# EAGLE library part TEXAS_INSTRUMENTS-MOSFET-CSD19531Q5A (library Module_ICs)
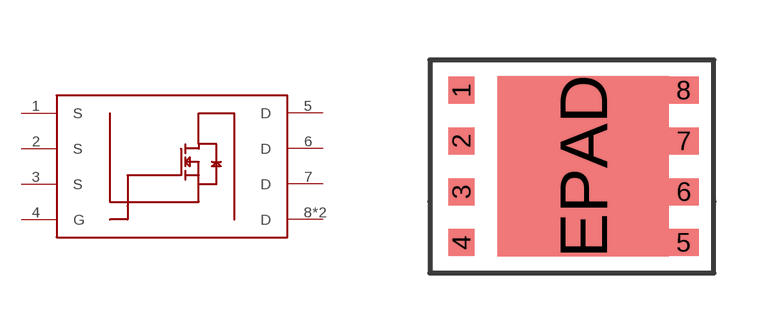
[diagram p44: symbol with the pads of TEXAS_INSTRUMENTS-MOSFET-CSD19531Q5A; footprint TEXAS_INSTRUMENTS-MOSFET-CSD19531Q5A]

Designator prefix U

## TEXAS_INSTRUMENTS-MOSFET-CSD19531Q5A  [TEXAS_INSTRUMENTS-MOSFET-CSD19531Q5A]
1  S
2  S
3  S
4  G
5  D
6  D
7  D
8  D
EPAD  D

## Footprint TEXAS_INSTRUMENTS-MOSFET-CSD19531Q5A (pad centres in mm)
smd 0.655 x 0.675: 1 -5.553,0; 2 -5.553,-1.27; 3 -5.553,-2.54; 4 -5.553,-3.81
smd 0.75 x 0.675: 5 0,-3.81; 6 0,-2.54; 7 0,-1.27; 8 0,0
smd 4.295 x 4.51: EPAD -2.515,-1.905